# Altium footprint library Pcblibv2.PcbLib: 94 footprints (part 3 of 6)
Each footprint in its own frame and in the unit in brackets; x right, y up, seen from the top. Pads: shape width x height; smd on the part's side, far side on the other; paste and mask are expansions set on the pad; w line width, h text height; cw(c..) or ccw(c..) is an arc to the next point about the centre after c.
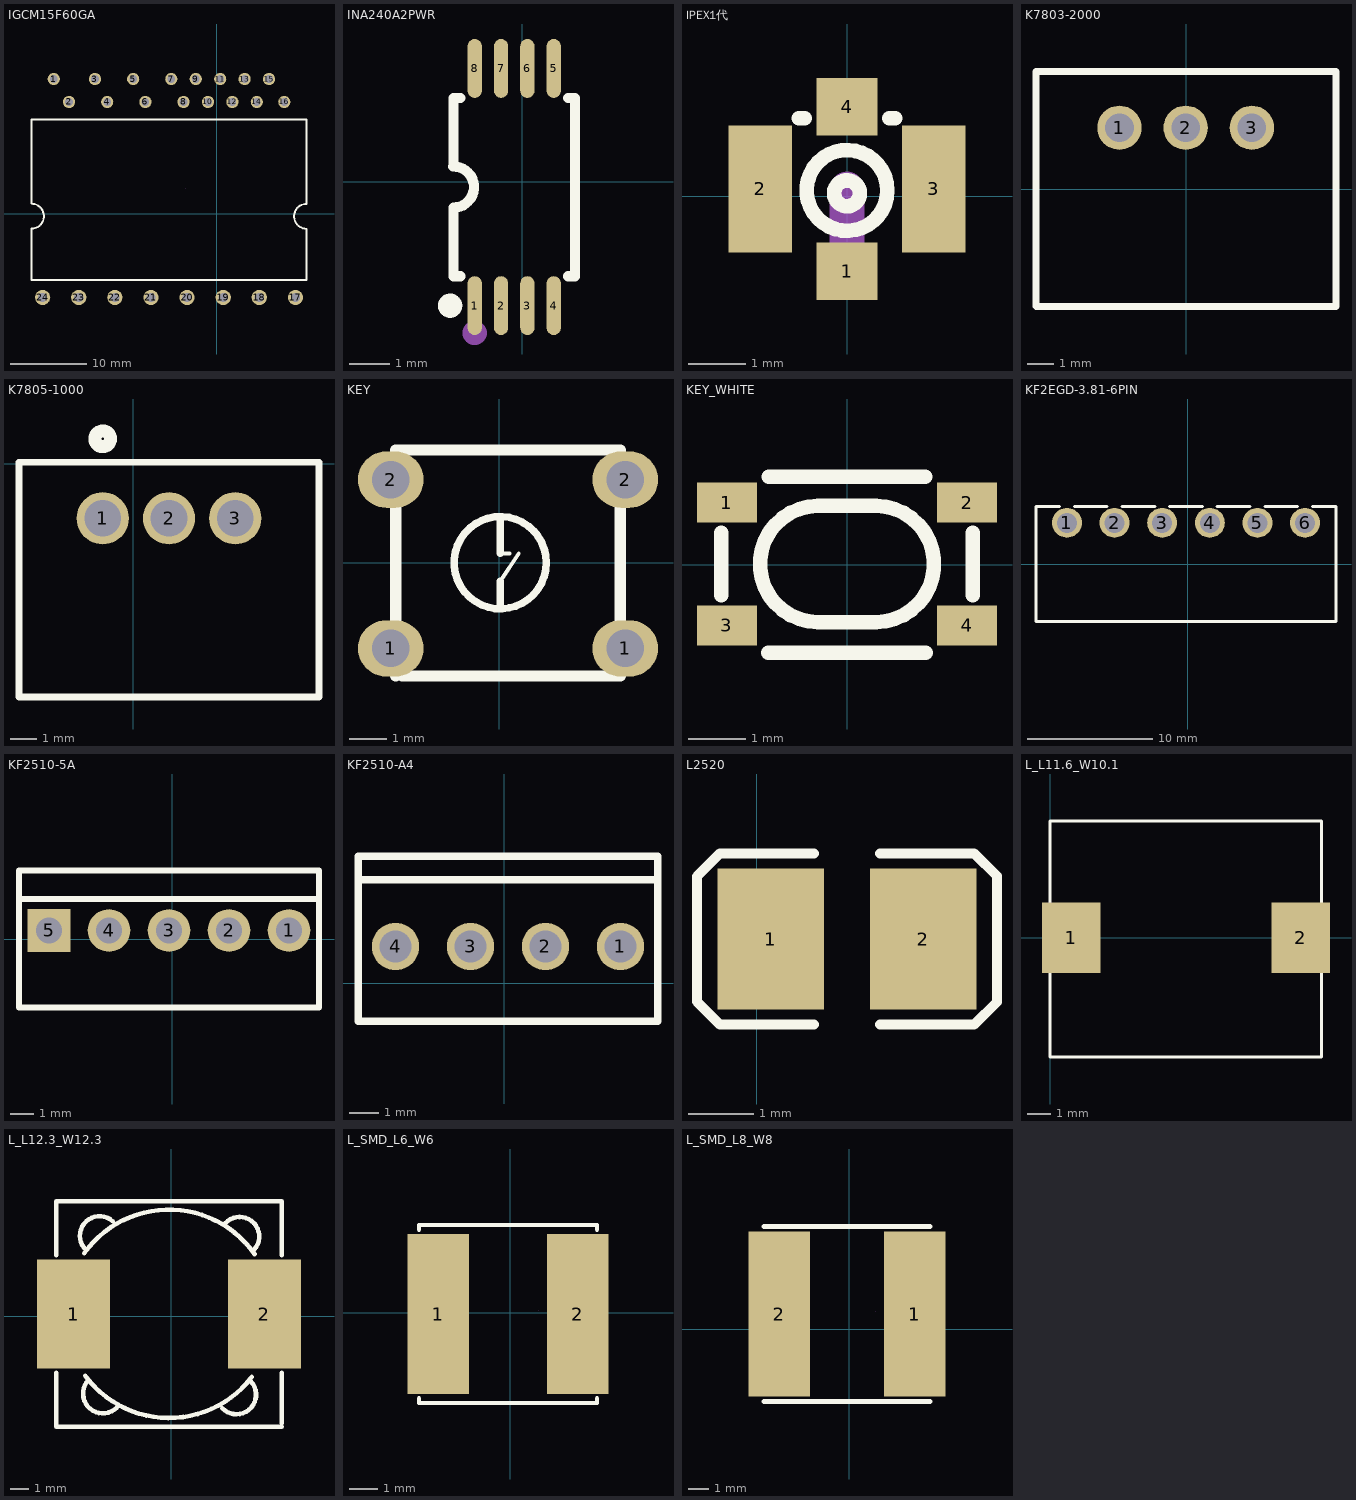
[diagram p2: the footprints below, top view; thin cyan lines are the x and y axes]

## FPC_28PIN_0.5 [mm]

## IGCM15F60GA [mm]
pads (24):
  round 1.6 hole 1: 1(-21.323,17.662) 2(-19.323,14.662) 3(-15.923,17.662) 4(-14.323,14.662) 5(-10.923,17.662) 6(-9.323,14.662) 7(-5.923,17.662) 8(-4.323,14.662) 9(-2.723,17.662) 10(-1.123,14.662) 11(0.477,17.662) 12(2.077,14.662) 13(3.677,17.662) 14(5.277,14.662) 15(6.877,17.662) 16(8.877,14.662)
  round 2 hole 1.2: 17(10.332,-10.938) 18(5.602,-10.938) 19(0.872,-10.938) 20(-3.858,-10.938) 21(-8.588,-10.938) 22(-13.318,-10.938) 23(-18.048,-10.938) 24(-22.778,-10.938)
Top Overlay:
  lines w0.254: 11.768,-8.648 11.768,-1.948 cw(c11.785,-0.314) 11.802,1.32 11.768,12.352 ; 11.777,-8.638 -24.223,-8.638 -24.223,-1.938 ccw(c-24.24,-0.304) -24.257,1.33 -24.223,12.362 11.777,12.362
Mechanical 15:
  lines w0.003: -4.069,3.389 -4.068,3.389

## INA240A2PWR [mm]
pads (8):
  oval 0.353x1.454 smd: 1(-1.169,-3.062) 2(-0.519,-3.062) 3(0.131,-3.062) 4(0.781,-3.062) 5(0.781,2.792) 6(0.131,2.792) 7(-0.519,2.792) 8(-1.169,2.792)
Top Overlay:
  circle w0.3: c-1.776,-3.063 r0.15
  lines w0.254: -1.695,0.373 cw(c-1.695,-0.135) -1.694,-0.643 -1.694,-2.335 -1.522,-2.335 ; -1.694,0.373 -1.694,2.065 -1.522,2.065 ; 1.134,-2.335 1.306,-2.335 1.306,2.065 1.134,2.065
Mechanical 15:
  circle w0.3: c-1.169,-3.735 r0.15

## IPEX1代 [mm]
pads (4):
  rect 1.05x1 smd: 1(-0.002,-1.298) 4(-0.002,1.552)
  rect 1.1x2.2 smd: 2(-1.503,0.127) 3(1.497,0.127)
Top Overlay:
  circle w0.254: c-0.003,0.052 r0.224
  circle w0.254: c-0.003,0.102 r0.7
  lines w0.254: -0.839,1.352 -0.734,1.352 ; 0.729,1.352 0.834,1.352
Mechanical 15:
  circle w0.3: c-0.003,0.127 r0.15
  circle w0.2: c-0.303,-1.498 r0.1
  region: 0.297,-0.873 0.297,0.127 -0.303,0.127 -0.303,-0.873

## K7803-2000 [mm]
pads (3):
  round 1.7 hole 1.1: 1(-2.553,2.349) 2(-0.013,2.349) 3(2.527,2.349)
Top Overlay:
  lines w0.254: -5.753,-4.491 -5.753,4.508 ; -5.748,-4.508 5.753,-4.508 ; -5.747,4.508 5.753,4.508 5.753,-4.491

## K7805-1000 [mm]
pads (3):
  round 2 hole 1.4: 1(-1.168,-2.097) 2(1.372,-2.097) 3(3.912,-2.097)
Top Overlay:
  circle w0.5: c-1.168,0.951 r0.3
  lines w0.254: -4.378,-8.947 7.122,-8.947 7.122,0.053 -4.378,0.053 -4.378,-8.947

## KEY [mil] "鸿源"
pads (4):
  oval 70x60 hole 40: 1(-115.73,-91.39) 1(134.27,-91.39) 2(-115.73,88.61) 2(134.27,88.61)
Top Overlay:
  circle w8: c1,0 r49.21
  lines w4: 1,-19.68 20.68,9.84 ; 1,9.84 10.84,9.84
  lines w8: 1,-49.21 1,-19.68 ; 1,9.84 1,49.21
  lines w12: -110.42,-120.87 -110.42,120.08 128.95,120.08 128.95,-120.87 -103.53,-120.87

## KEY_WHITE [mm]
pads (4):
  rect 1.05x0.7 smd: 1(-2.1,1.088) 2(2.1,1.088) 3(-2.1,-1.062) 4(2.1,-1.062)
Top Overlay:
  lines w0.254: -2.2,-0.531 -2.2,0.557 ; -1.381,-1.537 1.381,-1.537 ; -1.366,1.537 1.366,1.537 ; 2.2,-0.531 2.2,0.557 ; -0.508,-1.003 cw(c-0.508,0.013) -0.508,1.029 0.508,1.029 cw(c0.508,0.013) 0.508,-1.003 -0.508,-1.003

## KF2EGD-3.81-6PIN [mm]
pads (6):
  round 2.4 hole 1.6: 1(-9.652,3.3) 2(-5.842,3.3) 3(-2.032,3.3) 4(1.778,3.3) 5(5.588,3.3) 6(9.398,3.3)
Top Overlay:
  lines w0.254: -10.247,4.6 -12.127,4.6 -12.127,-4.6 11.873,-4.6 11.873,4.6 9.993,4.6 ; -9.057,4.6 -6.437,4.6 ; -5.247,4.6 -2.627,4.6 ; -1.437,4.6 1.183,4.6 ; 2.373,4.6 4.993,4.6 ; 6.183,4.6 8.803,4.6

## KF2510-5A [mm]
pads (5):
  round 1.8 hole 1.1: 1(4.953,0.36) 2(2.413,0.36) 3(-0.127,0.36) 4(-2.667,0.36)
  rect 1.8x1.8 hole 1.1: 5(-5.207,0.36)
Top Overlay:
  lines w0.254: -6.477,1.7 6.223,1.7 ; -6.477,-2.9 -6.477,2.9 6.223,2.9 6.223,-2.9 -6.477,-2.9

## KF2510-A4 [mm]
pads (4):
  round 1.6 hole 1.1: 1(3.937,1.245) 2(1.397,1.245) 3(-1.143,1.245) 4(-3.683,1.245)
Top Overlay:
  lines w0.254: -4.928,3.505 5.08,3.505 ; -4.953,-1.295 -4.953,-0.025 -4.953,4.293 5.207,4.293 5.207,-1.295 -4.953,-1.295

## L2520 [mm] "电感"
pads (2):
  rect 1.635x2.16 smd: 1(0.212,-6.967) 2(2.547,-6.967)
Top Overlay:
  lines w0.152: 0.871,-8.275 -0.569,-8.275 -0.917,-7.927 -0.917,-6.007 -0.569,-5.659 0.871,-5.659 ; 1.887,-8.275 3.327,-8.275 3.675,-7.93 3.675,-6.005 3.327,-5.659 1.887,-5.659
Top Paste:
  region: 1.694,-7.947 1.694,-7.434 1.794,-7.334 2.185,-7.334 2.285,-7.234 2.285,-6.7 2.185,-6.6 1.794,-6.6 1.694,-6.5 1.694,-5.987 1.794,-5.887 3.264,-5.887 3.364,-5.987 3.364,-7.947 3.264,-8.047 1.794,-8.047
  region: 1.064,-7.947 1.064,-7.434 0.964,-7.334 0.573,-7.334 0.473,-7.234 0.473,-6.7 0.573,-6.6 0.964,-6.6 1.064,-6.5 1.064,-5.987 0.964,-5.887 -0.506,-5.887 -0.606,-5.987 -0.606,-7.947 -0.506,-8.047 0.964,-8.047

## L_L11.6_W10.1 [mm] "https://item.taobao.com/item.htm?spm=a1z10.3-c-s.w4002-21223910208.40.112c6a4bikeALD&id=528441541881"
pads (2):
  rect 2.5x3 smd: 1(0.886,0) 2(10.706,0)
Top Overlay:
  lines w0.127: -0.023,-5.105 11.577,-5.105 11.577,4.995 -0.023,4.995 -0.023,-5.105

## L_L12.3_W12.3 [mm] "功率电感"
pads (2):
  rect 4x6 smd: 1(-5.377,0.127) 2(5.123,0.127)
Top Overlay:
  lines w0.254: -6.327,-3.104 -6.327,-6.073 6.073,-6.073 ; -6.327,3.358 -6.327,6.327 6.073,6.327 6.073,3.358 ; -4.793,3.475 cw(c-0.127,0.127) 4.573,3.427 ; -4.727,-3.273 ccw(c-0.127,0.127) 4.425,-3.337 ; -4.677,3.631 cw(c-3.949,4.426) -3.227,5.227 ; -4.661,-3.632 ccw(c-3.768,-4.251) -2.885,-4.884 ; 2.8,-5.049 ccw(c3.584,-4.308) 4.373,-3.573 ; 2.961,5.115 cw(c3.756,4.387) 4.557,3.665 ; 6.073,-5.873 6.073,-3.104

## L_SMD_L6_W6 [mm]
pads (2):
  rect 2.2x5.72 smd: 1(-2.583,-0.05) 2(2.417,-0.05)
Top Overlay:
  lines w0.152: -3.259,-3.062 -3.259,-3.226 3.093,-3.226 3.093,-3.062 ; -3.259,2.963 -3.259,3.127 3.093,3.127 3.093,2.963
Mechanical 15:
  lines w0.003: 0.996,0.077 0.997,0.078

## L_SMD_L8_W8 [mm]
pads (2):
  rect 3.024x8.12 smd: 1(3.215,0.762) 2(-3.441,0.762)
Top Overlay:
  lines w0.254: -4.189,-3.556 3.963,-3.556 ; -4.189,5.08 3.963,5.08
Mechanical 15:
  lines w0.003: 1.301,0.889 1.302,0.889